# Altium integrated library SHARP BlueStreak.IntLib: 29 symbols (part 9 of 9)
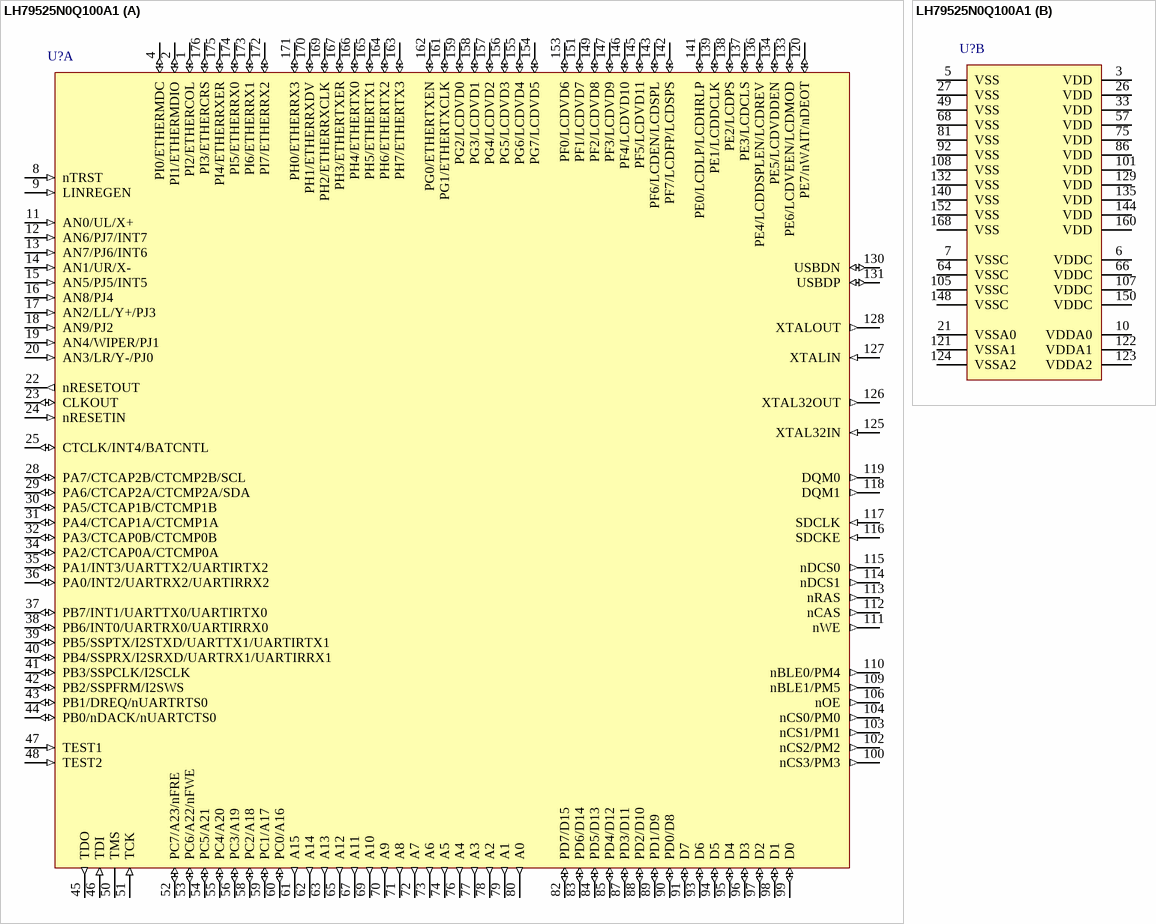
[diagram p41: symbol LH79525N0Q100A1]

## LH79525N0Q100A1
designator U?
32-Bit ARM720T-Based BlueStreak MMU with 8KB Cache, USB 2.0, 10-Bit ADC, JTAG, Colour LCD Controller, 16Kb SRAM, 176-Pin LQFP, Pb-Free; Published: 6-Oct-2005; LatestRevisionDate: 30-Mar-2007; LatestRevisionNote: Pins nDCS0/1, nOE, nWE set to Output.; DatasheetVersion: verA.1, Oct-2006; PackageVersion: Mar-2006; PackageReference: 176LQFP; Publisher: Altium Limited; PackageDescription: 176-Pin Low Profile Quad Flat Pack; Code_JEDEC: MS-026-BFC; ComponentLink1Description: Manufacturer Link; ComponentLink1URL: http://www.sharpsma.com/; ComponentLink2Description: Datasheet; ComponentLink2URL: http://document.sharpsma.com/files/LH79524-525_DS_050506.PDF
footprint 176LQFP_N (Thin QFP, 176-Leads, Body 20x20mm, Pitch 0.4mm, IPC Medium Density)
footprint 176LQFP_L (Thin QFP, 176-Leads, Body 20x20mm, Pitch 0.4mm, IPC High Density)
footprint 176LQFP_M (Thin QFP, 176-Leads, Body 20x20mm, Pitch 0.4mm, IPC Low Density)
3D model LH79525-QFP176 (176-Pin Low Profile Quad Flat Pack)
part A pins: 1 PI2/ETHERCOL (io) "GPIO - Port I/Ethernet Collision Detect", 2 PI1/ETHERMDIO (io) "GPIO - Port I/Ethernet Management Data I/O", 4 PI0/ETHERMDC (io) "GPIO - Port I/Ethernet Management Data Clock", 8 nTRST (in) "JTAG Test Reset Input", 9 LINREGEN (in) "Linear Regulator Enable", 11 AN0/UL/X+ (in) "ADC Input/4-wire touch screen Upper Left/5-wire touch screen X", 12 AN6/PJ7/INT7 (in) "ADC Input/GPIO - Port J (input only)/External Interrupt 7", 13 AN7/PJ6/INT6 (in) "ADC Input/GPIO - Port J (input only)/External Interrupt 6", 14 AN1/UR/X- (in) "ADC Input/4-wire touch screen Upper Right/5-wire touch screen X-", 15 AN5/PJ5/INT5 (in) "ADC Input/GPIO - Port J (input only)/External Interrupt 5", 16 AN8/PJ4 (in) "ADC Input/GPIO - Port J (input only)", 17 AN2/LL/Y+/PJ3 (in) "ADC Input/4-wire touch screen Lower Left/5-wire touch screen Y/GPIO - Port J (input only)", 18 AN9/PJ2 (in) "ADC Input/GPIO - Port J (input only)", 19 AN4/WIPER/PJ1 (in) "ADC Input/5-wire touch screen Wiper input/GPIO - Port J (input only)", 20 AN3/LR/Y-/PJ0 (in) "ADC Input/4-wire touch screen Lower Right/5-wire touch screen Y-/GPIO - Port J (input only)", 22 nRESETOUT (out) "Reset Output", 23 CLKOUT (io) "Clock Out (selectable from the internal bus clock or 32.768 kHz crystal)", 24 nRESETIN (in) "Reset Input", 25 CTCLK/INT4/BATCNTL (io) "External Clock input/External Int 4/Battery Control", 28 PA7/CTCAP2B/CTCMP2B/SCL (io) "GPIO - Port A/Counter,Timer 2 Capture B input/Counter,Timer2 Compare B output/I2C Bus Clock (open drain)", 29 PA6/CTCAP2A/CTCMP2A/SDA (io) "GPIO - Port A/Counter,Timer 2 Capture A input/Counter,Timer2 Compare A output/I2C Bus Data (open drain)", 30 PA5/CTCAP1B/CTCMP1B (io) "GPIO - Port A/Counter,Timer 1 Capture B input/Counter,Timer 1 Compare B output", 31 PA4/CTCAP1A/CTCMP1A (io) "GPIO - Port A/Counter,Timer 1 Capture A input/Counter,Timer 1 Compare A output", 32 PA3/CTCAP0B/CTCMP0B (io) "GPIO - Port A/Counter,Timer 0 Capture B input/Counter,Timer 0 Compare B output", 34 PA2/CTCAP0A/CTCMP0A (io) "GPIO - Port A/Counter,Timer 0 Capture A input/Counter,Timer 0 Compare A output", 35 PA1/INT3/UARTTX2/UARTIRTX2 (io) "GPIO - Port A/External Interrupt 3/UART2 Transmit Serial Data Output/UART2 Outfrared Transmit Serial Data Out", 36 PA0/INT2/UARTRX2/UARTIRRX2 (io) "GPIO - Port A/External Interrupt 2/UART2 Received Serial Data Input/UART2 Infrared Received Serial Data In", 37 PB7/INT1/UARTTX0/UARTIRTX0 (io) "GPIO - Port B/External Interrupt 1/UART0 IR Transmit Serial Data Output/UART0 Transmit Serial Data Out", 38 PB6/INT0/UARTRX0/UARTIRRX0 (io) "GPIO - Port B/External Interrupt 0/UART0 IR Received Serial Data Input/UART0 Received Serial Data In", 39 PB5/SSPTX/I2STXD/UARTTX1/UARTIRTX1 (io) "GPIO - Port B/SSP Data Out/I2S Data Out/UART1 Data Out/UART1 IR Data Out", 40 PB4/SSPRX/I2SRXD/UARTRX1/UARTIRRX1 (io) "GPIO - Port B/SSP Data In/I2S Data In/UART1 Serial Data In/UART1 IR Data In", 41 PB3/SSPCLK/I2SCLK (io) "GPIO - Port B/SSP Clock/I2S Clock", 42 PB2/SSPFRM/I2SWS (io) "GPIO - Port B/SSP Serial Frame Output/I2S Frame Output", 43 PB1/DREQ/nUARTRTS0 (io) "GPIO - Port B/DMA Request/UART0 RTS", 44 PB0/nDACK/nUARTCTS0 (io) "GPIO - Port B/DMA Acknowledge/UART0 CTS", 45 TDO (out) "JTAG Test Data Serial Output", 46 TDI (in) "JTAG Test Serial Data Input", 47 TEST1 (in) "Tie HIGH for Normal Operation; pull LOW to enable embedded ICE Debugging", 48 TEST2 (in) "Tie HIGH for Normal Operation; pull LOW to enable embedded ICE Debugging", 50 TMS (power) "JTAG Test Mode Select Input", 51 TCK (in) "JTAG Test Clock Input", 52 PC7/A23/nFRE (io) "GPIO - Port C/External Address Bus/NAND Flash Read Enable", 53 PC6/A22/nFWE (io) "GPIO - Port C/External Address Bus/NAND Flash Write Enable", 54 PC5/A21 (io) "GPIO - Port C/External Address Bus", 55 PC4/A20 (io) "GPIO - Port C/External Address Bus", 56 PC3/A19 (io) "GPIO - Port C/External Address Bus", 58 PC2/A18 (io) "GPIO - Port C/External Address Bus", 59 PC1/A17 (io) "GPIO - Port C/External Address Bus", 60 PC0/A16 (io) "GPIO - Port C/External Address Bus", 61 A15 (out) "External Address Bus", 62 A14 (out) "External Address Bus", 63 A13 (out) "External Address Bus", 65 A12 (out) "External Address Bus", 67 A11 (out) "External Address Bus", 69 A10 (out) "External Address Bus", 70 A9 (out) "External Address Bus", 71 A8 (out) "External Address Bus", 72 A7 (out) "External Address Bus", 73 A6 (out) "External Address Bus", 74 A5 (out) "External Address Bus", 76 A4 (out) "External Address Bus", 77 A3 (out) "External Address Bus", 78 A2 (out) "External Address Bus", 79 A1 (out) "External Address Bus", 80 A0 (out) "External Address Bus", 82 PD7/D15 (io) "GPIO - Port D/External Data Bus", 83 PD6/D14 (io) "GPIO - Port D/External Data Bus", 84 PD5/D13 (io) "GPIO - Port D/External Data Bus", 85 PD4/D12 (io) "GPIO - Port D/External Data Bus", 87 PD3/D11 (io) "GPIO - Port D/External Data Bus", 88 PD2/D10 (io) "GPIO - Port D/External Data Bus", 89 PD1/D9 (io) "GPIO - Port D/External Data Bus", 90 PD0/D8 (io) "GPIO - Port D/External Data Bus", 91 D7 (io) "External Data Bus", 93 D6 (io) "External Data Bus", 94 D5 (io) "External Data Bus", 95 D4 (io) "External Data Bus", 96 D3 (io) "External Data Bus", 97 D2 (io) "External Data Bus", 98 D1 (io) "External Data Bus", 99 D0 (io) "External Data Bus", 100 nCS3/PM3 (out) "Static Memory Chip Select/GPIO - Port M (output only)", 102 nCS2/PM2 (out) "Static Memory Chip Select/GPIO - Port M (output only)", 103 nCS1/PM1 (out) "Static Memory Chip Select/GPIO - Port M (output only)", 104 nCS0/PM0 (out) "Static Memory Chip Select/GPIO - Port M (output only)", 106 nOE (out) "Static Memory Output Enable", 109 nBLE1/PM5 (out) "Static Memory Byte Lane Enable, Byte Write Enable/GPIO - Port M (output only)", 110 nBLE0/PM4 (out) "Static Memory Byte Lane Enable, Byte Write Enable/GPIO - Port M (output only)", 111 nWE (out) "Static Memory Write Enable", 112 nCAS (out) "Column Address Strobe", 113 nRAS (out) "Row Address Strobe", 114 nDCS1 (out) "SDRAM Chip Select", 115 nDCS0 (out) "SDRAM Chip Select", 116 SDCKE (in) "SDRAM Clock Enable", 117 SDCLK (in) "SDRAM Clock", 118 DQM1 (out) "Data Mask Output to SDRAMs", 119 DQM0 (out) "Data Mask Output to SDRAMs", 120 PE7/nWAIT/nDEOT (io) "GPIO - Port E/nWAIT/DMA End of Transfer", 125 XTAL32IN (in) "32.768 kHz Crystal Oscillator Input", 126 XTAL32OUT (out) "32.768 kHz Crystal Oscillator Output", 127 XTALIN (in) "Crystal Input", 128 XTALOUT (out) "Crystal Output", 130 USBDN (io) "USB Data Negative (Differential Pair output, single ended and Differential pair input)", 131 USBDP (io) "USB Data Positive (Differential Pair output, single ended and Differential pair input)", 133 PE6/LCDVEEN/LCDMOD (io) "GPIO - Port E/LCD Analog Power Enable/LCD MOD", 134 PE5/LCDVDDEN (io) "GPIO - Port E/LCD VDD Enable", 136 PE4/LCDDSPLEN/LCDREV (io) "GPIO - Port E/LCD Panel Power Enable/LCD Reverse", 137 PE3/LCDCLS (io) "GPIO - Port E/LCD Row Driver Clock", 138 PE2/LCDPS (io) "GPIO - Port E/LCD Power Save", 139 PE1/LCDDCLK (io) "GPIO - Port E/LCD Data Clock", 141 PE0/LCDLP/LCDHRLP (io) "GPIO - Port E/LCD Line Pulse/AD-TFT, HR-TFT Line Pulse", 142 PF7/LCDFP/LCDSPS (io) "GPIO - Port F/LCD Horiz Sync Pulse/LCD Vert Sync", 143 PF6/LCDEN/LCDSPL (io) "GPIO - Port F/LCD Data Enable/LCD Start Pulse Left", 145 PF5/LCDVD11 (io) "GPIO - Port F/LCD Video Data bit", 146 PF4/LCDVD10 (io) "GPIO - Port F/LCD Video Data bit", 147 PF3/LCDVD9 (io) "GPIO - Port F/LCD Video Data bit", 149 PF2/LCDVD8 (io) "GPIO - Port F/LCD Video Data bit", 151 PF1/LCDVD7 (io) "GPIO - Port F/LCD Video Data bit", 153 PF0/LCDVD6 (io) "GPIO - Port F/LCD Video Data bit", 154 PG7/LCDVD5 (io) "GPIO - Port G/LCD Video Data bit", 155 PG6/LCDVD4 (io) "GPIO - Port G/LCD Video Data bit", 156 PG5/LCDVD3 (io) "GPIO - Port G/LCD Video Data bit", 157 PG4/LCDVD2 (io) "GPIO - Port G/LCD Video Data bit", 158 PG3/LCDVD1 (io) "GPIO - Port G/LCD Video Data bit", 159 PG2/LCDVD0 (io) "GPIO - Port G/LCD Video Data bit", 161 PG1/ETHERTXCLK (io) "GPIO - Port G/Ethernet TX Clock", 162 PG0/ETHERTXEN (io) "GPIO - Port G/Ethernet TX Enable", 163 PH7/ETHERTX3 (io) "GPIO - Port H/Ethernet Transmit Channel 3", 164 PH6/ETHERTX2 (io) "GPIO - Port H/Ethernet Transmit Channel 2", 165 PH5/ETHERTX1 (io) "GPIO - Port H/Ethernet Transmit Channel 1", 166 PH4/ETHERTX0 (io) "GPIO - Port H/Ethernet Transmit Channel 0", 167 PH3/ETHERTXER (io) "GPIO - Port H/Ethernet Transmit Error", 169 PH2/ETHERRXCLK (io) "GPIO - Port H/Ethernet Receive Clock", 170 PH1/ETHERRXDV (io) "GPIO - Port H/Ethernet Data Valid", 171 PH0/ETHERRX3 (io) "GPIO - Port H/Ethernet Receive Channel 3", 172 PI7/ETHERRX2 (io) "GPIO - Port I/Ethernet Receive Channel 2", 173 PI6/ETHERRX1 (io) "GPIO - Port I/Ethernet Receive Channel 1", 174 PI5/ETHERRX0 (io) "GPIO - Port I/Ethernet Receive Channel 0", 175 PI4/ETHERRXER (io) "GPIO - Port I/Ethernet Receive Error", 176 PI3/ETHERCRS (io) "GPIO - Port I/Ethernet Carrier Sense"
part B pins: 3 VDD (power) "Input/Output Power Supply", 5 VSS (power) "Input/Output GND", 6 VDDC (power) "Core Power Supply", 7 VSSC (power) "Core GND", 10 VDDA0 (power) "Analog Power Supply for Analog-to-Digital Converter", 21 VSSA0 (power) "Analog GND for Analog-to-Digital Converter", 26 VDD (power) "Input/Output Power Supply", 27 VSS (power) "Input/Output GND", 33 VDD (power) "Input/Output Power Supply", 49 VSS (power) "Input/Output GND", 57 VDD (power) "Input/Output Power Supply", 64 VSSC (power) "Core GND", 66 VDDC (power) "Core Power Supply", 68 VSS (power) "Input/Output GND", 75 VDD (power) "Input/Output Power Supply", 81 VSS (power) "Input/Output GND", 86 VDD (power) "Input/Output Power Supply", 92 VSS (power) "Input/Output GND", 101 VDD (power) "Input/Output Power Supply", 105 VSSC (power) "Core GND", 107 VDDC (power) "Core Power Supply", 108 VSS (power) "Input/Output GND", 121 VSSA1 (power) "Analog GND for the USB PLL", 122 VDDA1 (power) "Analog Power Supply for the USB PLL", 123 VDDA2 (power) "Analog Power Supply for System PLL", 124 VSSA2 (power) "Analog GND for System PLL", 129 VDD (power) "Input/Output Power Supply", 132 VSS (power) "Input/Output GND", 135 VDD (power) "Input/Output Power Supply", 140 VSS (power) "Input/Output GND", 144 VDD (power) "Input/Output Power Supply", 148 VSSC (power) "Core GND", 150 VDDC (power) "Core Power Supply", 152 VSS (power) "Input/Output GND", 160 VDD (power) "Input/Output Power Supply", 168 VSS (power) "Input/Output GND"